# Altium footprint library POWER_BOARD.PcbLib: 31 footprints (part 1 of 2)
Each footprint in its own frame and in the unit in brackets; x right, y up, seen from the top. Pads: shape width x height; smd on the part's side, far side on the other; paste and mask are expansions set on the pad; w line width, h text height; cw(c..) or ccw(c..) is an arc to the next point about the centre after c.
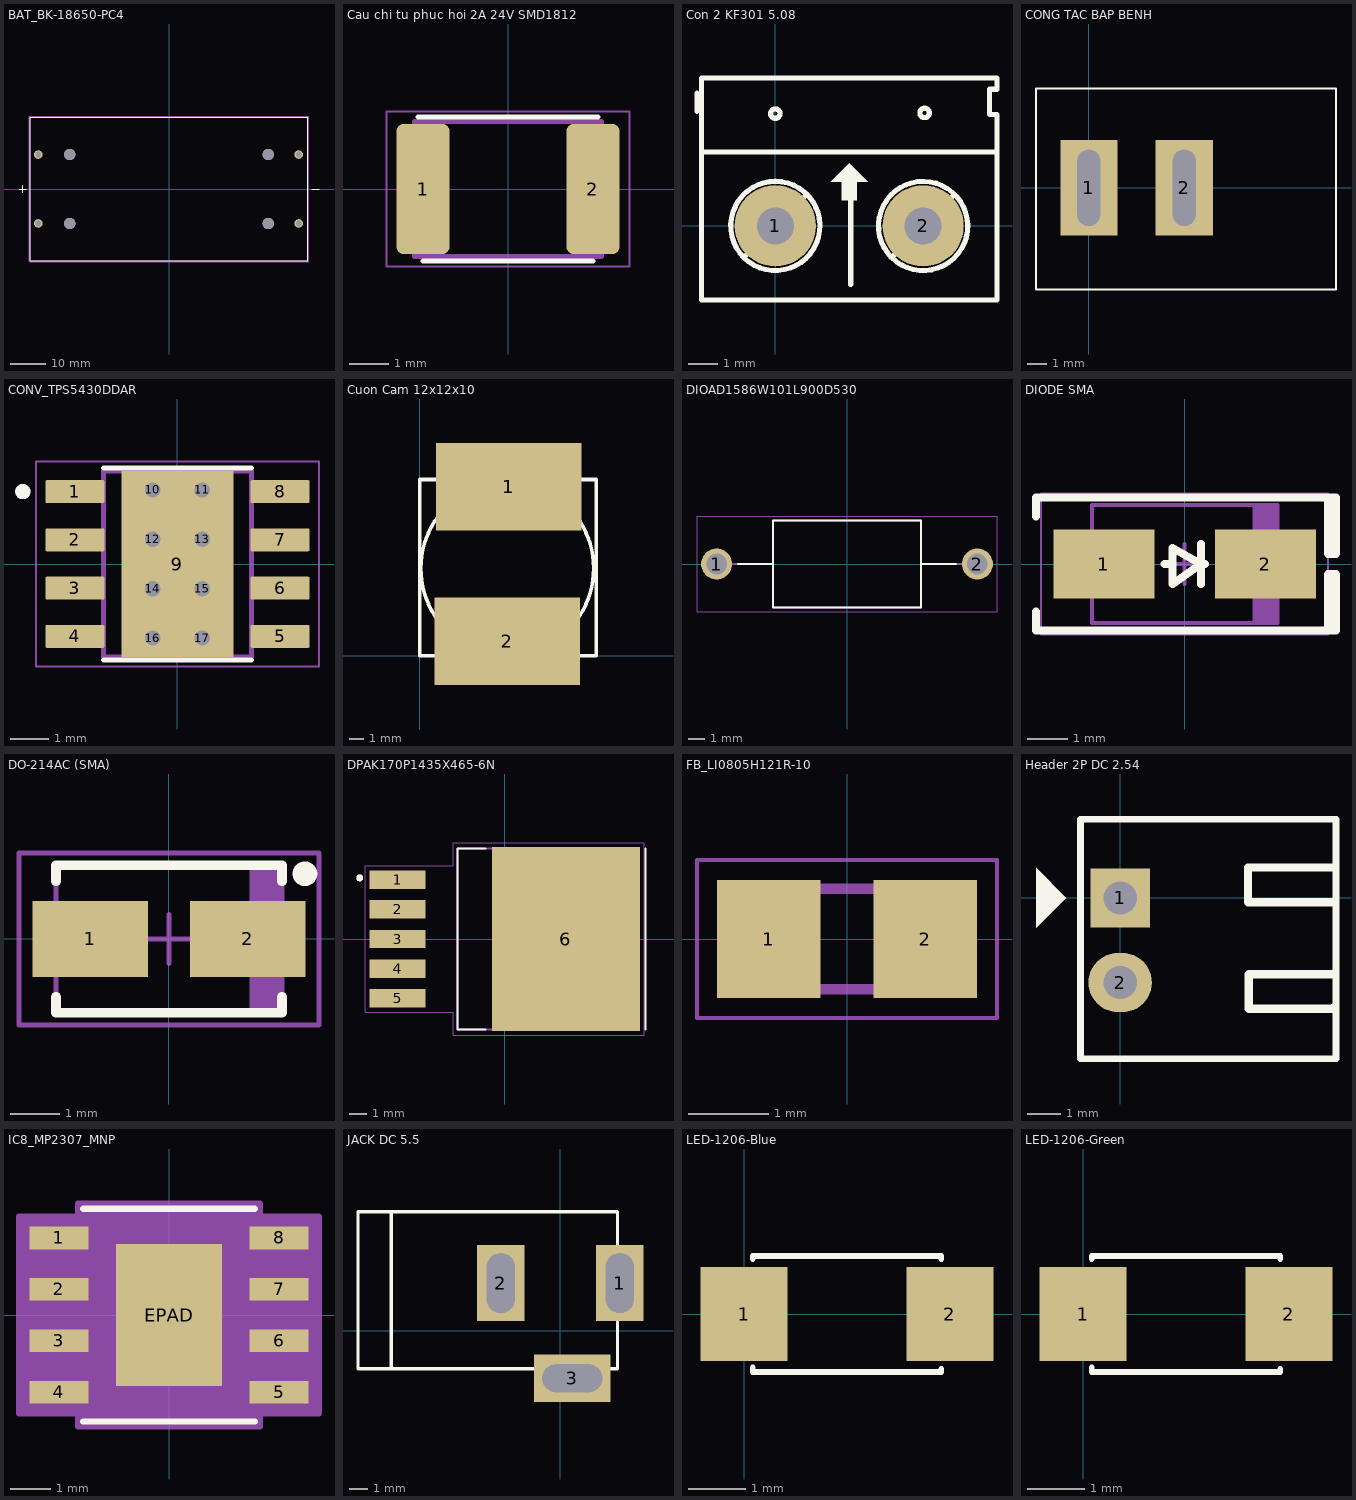
[diagram p0: the footprints below, top view; thin cyan lines are the x and y axes]

## BAT_BK-18650-PC4 [mm]
pads (8):
  round 2.4 hole 1.6: 1+(-36.6,9.65) 1-(36.3,9.65) 2+(-36.6,-9.65) 2-(36.3,-9.65)
  round 3.2 hole 3.2: ""(-27.81,-9.65) ""(-27.81,9.65) ""(27.81,-9.65) ""(27.81,9.65)
Top Overlay:
  lines w0.127: -42,0 -40,0 ; -41,-1 -41,1 ; 40,0 42,0 ; -38.85,-20.105 -38.85,20.105 38.85,20.105 38.85,-20.105 -38.85,-20.105
Mechanical 13:
  lines w0.127: -42,0 -40,0 ; -41,-1 -41,1 ; 40,0 42,0 ; -38.85,-20.105 -38.85,20.105 38.85,20.105 38.85,-20.105 -38.85,-20.105
Mechanical 15:
  lines w0.05: -39.1,-20.355 -39.1,20.355 39.1,20.355 39.1,-20.355 -39.1,-20.355
3D body "KLS5-18650-002-D.STEP": height 21, standoff -3.99, extent -38.9,-19.973 38.9,20.227

## Cau chi tu phuc hoi 2A 24V SMD1812 [mm]
pads (2):
  rrect25% 1.34x3.29 smd: 1(-2.15,0) 2(2.15,0)
Top Overlay:
  lines w0.127: -2.28,1.825 2.28,1.825 ; -2.15,-1.825 2.15,-1.825
Mechanical 13:
  lines w0.127: -2.37,-1.71 -2.37,1.71 2.37,1.71 2.37,-1.71 -2.37,-1.71
Mechanical 15:
  lines w0.05: -3.07,-1.96 -3.07,1.96 3.07,1.96 3.07,-1.96 -3.07,-1.96
3D body "step_temp.STEP": height 1.25, standoff 0, extent -2.275,-1.62 2.275,1.62

## Con 2 KF301 5.08 [mil]
pads (2):
  round 110 hole 50: 1(0,0) 2(200,0)
Top Overlay:
  circle w7: c0,152 r6.4
  circle w7: c202,153 r6.4
  region: 100,85 75,60 90,60 90,35 110,35 110,60 125,60
  lines w7: -106,155 -106,180 ; -100,100 300,100 ; -42,-42 43,43 ; 39.04,46.05 ccw(c0,0) 45.18,40.05 ; 102,-79 102,72 ; 158,-42 242.5,42.5 ; 239.76,45.44 ccw(c200,0) 245.18,40.05 ; 290,182 290,151 300,151 300,-100 -100,-100 -100,50 -100,200 300,200 300,185 290,185 ; 300,-79 300,40
3D body "Con 2 KF301.stp": height 335.25, standoff -137.19, extent -45,-97.4 255,190

## CONG TAC BAP BENH [mm]
pads (2):
  rect 3x5 hole 1.2 slot 4 at 90 deg: 1(0,0) 2(5,0)
Top Overlay:
  lines w0.1: -2.771,-5.311 -2.749,-5.334 12.954,-5.334 12.954,5.207 -2.771,5.207 -2.771,-5.311
3D body "KCD1-11.step": height 14.5, standoff -5, extent -2.67,-5.32 12.83,5.08

## CONV_TPS5430DDAR [mm]
height 1.7
pads (17):
  rrect10% 1.55x0.6 smd mask+0: 1(-2.7,1.905) 2(-2.7,0.635) 3(-2.7,-0.635) 4(-2.7,-1.905) 5(2.7,-1.905) 6(2.7,-0.635) 7(2.7,0.635) 8(2.7,1.905)
  rect 2.95x4.9 smd paste-3 mask+0: 9(0,0)
  round 0.5 hole 0.4 mask+0: 10(-0.65,1.95) 11(0.65,1.95) 12(-0.65,0.65) 13(0.65,0.65) 14(-0.65,-0.65) 15(0.65,-0.65) 16(-0.65,-1.95) 17(0.65,-1.95)
Top Overlay:
  circle w0.2: c-4.07,1.905 r0.1
  lines w0.127: -1.95,-2.525 1.95,-2.525 ; -1.95,2.525 1.95,2.525
Top Paste:
  region: 1.3,-1.55 -1.3,-1.55 -1.3,1.55 1.3,1.55
Top Solder:
  drawing of 9 lines, arcs and shapes, not listed
Mechanical 13:
  circle w0.2: c-4.07,1.905 r0.1
  lines w0.127: -1.95,-2.45 -1.95,2.45 1.95,2.45 1.95,-2.45 -1.95,-2.45
Mechanical 15:
  lines w0.05: -3.725,-2.7 -3.725,2.7 3.725,2.7 3.725,-2.7 -3.725,-2.7
3D body "step_temp.STEP": height 1.7, standoff 0, extent -3,-2.45 3,2.45

## Cuon Cam 12x12x10 [mm] "Cuon Cam 12x12x10"
pads (2):
  rect 10x6 smd: 1(6.1,11.6) 2(6,1)
Top Overlay:
  circle w0.254: c6,6 r5.941
  lines w0.254: 0,0 0,12.1 12.1,12.1 12.1,9.2 12.1,0 0,0
3D body "CUON CAM CDRH127 3A SMD.step": height 7.51, standoff 0.06, extent 0.096,-0.202 12.096,12.14

## DIOAD1586W101L900D530 [mm]
height 5.6
pads (2):
  round 1.89 hole 1.26: 1(-7.93,0) 2(7.93,0)
Top Overlay:
  lines w0.127: -6.63,0 -4.5,0 ; 6.63,0 4.5,0 ; -4.5,0 -4.5,-2.65 4.5,-2.65 4.5,0 ; -4.5,0 -4.5,2.65 4.5,2.65 4.5,0
Mechanical 13:
  lines w0.127: -7.93,0 -4.5,0 ; 7.93,0 4.5,0 ; -4.5,0 -4.5,-2.65 4.5,-2.65 4.5,0 ; -4.5,0 -4.5,2.65 4.5,2.65 4.5,0
Mechanical 15:
  lines w0.05: -9.125,-2.9 9.125,-2.9 9.125,2.9 -9.125,2.9 -9.125,-2.9

## DIODE SMA [mm] "SMA"
height 2.4
pads (2):
  rect 2.5x1.7 smd: 1(-2,0) 2(2,0)
Top Overlay:
  lines w0.2: -3.683,-1.175 -3.683,-1.651 3.75,-1.651 3.75,-0.254 3.556,-0.254 3.556,-1.651 ; -3.683,1.175 -3.683,1.651 3.75,1.651 3.75,0.254 3.556,0.254 3.556,1.651 ; -0.5,0 -0.3,0 ; 0.4,-0.5 0.4,0.5 ; 0.5,0 0.4,0 ; 0.4,0 -0.3,-0.5 -0.3,0.4 0.4,0
Mechanical 13:
  rectangle: 1.681,-1.46 2.3,1.46
  lines w0.1: -2.3,-1.46 2.3,-1.46 2.3,1.46 -2.3,1.46 -2.3,-1.46
Mechanical 15:
  lines w0.05: -3.556,-1.75 3.556,-1.75 3.556,1.75 -3.556,1.75 -3.556,-1.75
  lines w0.1: -0.5,0 0.5,0 ; 0,-0.5 0,0.5
3D body "SMA.STEP": height 2.4, standoff 0, extent -2.6,-1.375 2.6,1.375

## DO-214AC (SMA) [mm] "Molded Diode, 2-Leads, Body 4.3x2.7mm, IPC Medium Density"
height 2.5
pads (2):
  rect 2.35x1.55 smd: 1(-1.6,0) 2(1.6,0)
Top Overlay:
  circle w0.25: c2.765,1.325 r0.125
  lines w0.2: -2.3,-1.175 -2.3,-1.5 2.3,-1.5 2.3,-1.175 ; -2.3,1.175 -2.3,1.5 2.3,1.5 2.3,1.175
Mechanical 13:
  rectangle: 1.637,-1.45 2.256,1.45
  lines w0.1: -2.3,-1.45 2.3,-1.45 2.3,1.45 -2.3,1.45 -2.3,-1.45
Mechanical 15:
  lines w0.1: -0.5,0 0.5,0 ; 0,-0.5 0,0.5 ; -3.05,-1.75 3.05,-1.75 3.05,1.75 -3.05,1.75 -3.05,-1.75
3D body "User Library-DO-214AC SMA.step": height 2.4, standoff 0, extent -2.6,-1.295 2.6,1.305

## DPAK170P1435X465-6N [mm]
height 4.65
pads (6):
  rect 3.21x1.05 smd: 1(-6.13,3.4) 2(-6.13,1.7) 3(-6.13,0) 4(-6.13,-1.7) 5(-6.13,-3.4)
  rect 8.46x10.53 smd paste-6: 6(3.5,0)
Top Overlay:
  circle w0.2: c-8.3,3.5 r0.1
  lines w0.127: -1.1,-5.18 -2.705,-5.18 -2.705,5.18 -1.1,5.18 ; 8.05,-5.18 8.05,5.18
Top Paste:
  region: 0.95,-4.93 -0.31,-4.93 -0.31,-3.51 0.95,-3.51
  region: 0.95,-2.82 -0.31,-2.82 -0.31,-1.4 0.95,-1.4
  region: 3.07,3.51 1.81,3.51 1.81,4.93 3.07,4.93
  region: 0.95,3.51 -0.31,3.51 -0.31,4.93 0.95,4.93
  region: 0.95,1.4 -0.31,1.4 -0.31,2.82 0.95,2.82
  region: 3.07,1.4 1.81,1.4 1.81,2.82 3.07,2.82
  region: 3.07,-4.93 1.81,-4.93 1.81,-3.51 3.07,-3.51
  region: 3.07,-2.82 1.81,-2.82 1.81,-1.4 3.07,-1.4
  region: 7.31,-4.93 6.05,-4.93 6.05,-3.51 7.31,-3.51
  region: 7.31,-2.82 6.05,-2.82 6.05,-1.4 7.31,-1.4
  region: 7.31,3.51 6.05,3.51 6.05,4.93 7.31,4.93
  region: 7.31,1.4 6.05,1.4 6.05,2.82 7.31,2.82
  region: 5.19,-4.93 3.93,-4.93 3.93,-3.51 5.19,-3.51
  region: 5.19,-2.82 3.93,-2.82 3.93,-1.4 5.19,-1.4
  region: 5.19,3.51 3.93,3.51 3.93,4.93 5.19,4.93
  region: 5.19,1.4 3.93,1.4 3.93,2.82 5.19,2.82
  region: 0.95,-0.71 -0.31,-0.71 -0.31,0.71 0.95,0.71
  region: 3.07,-0.71 1.81,-0.71 1.81,0.71 3.07,0.71
  region: 7.31,-0.71 6.05,-0.71 6.05,0.71 7.31,0.71
  region: 5.19,-0.71 3.93,-0.71 3.93,0.71 5.19,0.71
Mechanical 13:
  circle w0.2: c-8.3,3.5 r0.1
  lines w0.127: -2.705,-5.18 6.195,-5.18 6.195,5.18 -2.705,5.18 -2.705,-5.18
Mechanical 15:
  lines w0.05: -7.99,-4.18 -2.96,-4.18 -2.96,-5.52 7.98,-5.52 7.98,5.52 -2.96,5.52 -2.96,4.18 -7.99,4.18 -7.99,-4.18
3D body "step_temp.STEP": height 4.65, standoff 0, extent -7.175,-5.08 7.175,5.08

## FB_LI0805H121R-10 [mm]
height 1.1
pads (2):
  rect 1.285x1.47 smd: 1(-0.973,0) 2(0.973,0)
Mechanical 13:
  lines w0.127: -1,-0.625 1,-0.625 1,0.625 -1,0.625 -1,-0.625
Mechanical 15:
  lines w0.05: -1.865,-0.985 1.865,-0.985 1.865,0.985 -1.865,0.985 -1.865,-0.985
3D body "step_temp.STEP": height 1.1, standoff 0, extent -1,-0.625 1,0.625

## Header 2P DC 2.54 [mil]
pads (2):
  rect 70x70 hole 39.37: 1(0,0)
  oval 75x70 hole 39.37: 2(0,-100)
Top Overlay:
  region: -99.5,35.5 -99.5,-35.5 -64.5,-0.5 -63.5,-0.5
  lines w7.87: -47,-190 255,-190 255,93 -47,93 -47,-190
  lines w10: 151,34 cw(c152,34) 152,35 ; 251,36 151,36 151,-5 253,-5 ; 253,-131 cw(c253,-130) 252,-130 cw(c251,-130) 251,-131 152,-131 152,-90 254,-90
3D body "header 2 cong.stp": height 236.7, standoff 0.48, extent -50,-189.96 250,89.96

## IC8_MP2307_MNP [mil]
pads (9):
  rect 57.5x22 smd paste+0 mask+0: 1(-107.25,75) 2(-107.25,25) 3(-107.25,-25) 4(-107.25,-75) 5(107.25,-75) 6(107.25,-25) 7(107.25,25) 8(107.25,75)
  rect 103x138 smd paste-68.5 mask+0: EPAD(0,0)
Top Overlay:
  lines w6: -83.5,-103.5 83.5,-103.5 ; -83.5,103.5 83.5,103.5
  text "." at -160,120 h393.7
Top Paste:
  region: -3.94,65.06 -47.56,65.06 -47.56,3.94 -3.94,3.94
  region: -3.94,-3.94 -47.56,-3.94 -47.56,-65.06 -3.94,-65.06
  region: 47.56,65.06 3.94,65.06 3.94,3.94 47.56,3.94
  region: 47.56,-3.94 3.94,-3.94 3.94,-65.06 47.56,-65.06
Mechanical 13:
  lines w0: -12,98.5 ccw(c0,98.5) 12,98.5
  lines w1: -122,-85 -122,-65 -78.5,-65 -78.5,-85 -122,-85 ; -122,-35 -122,-15 -78.5,-15 -78.5,-35 -122,-35 ; -122,15 -122,35 -78.5,35 -78.5,15 -122,15 ; -122,65 -122,85 -78.5,85 -78.5,65 -122,65 ; -78.5,-98.5 78.5,-98.5 78.5,98.5 -78.5,98.5 -78.5,-98.5 ; 78.5,-85 78.5,-65 122,-65 122,-85 78.5,-85 ; 78.5,-35 78.5,-15 122,-15 122,-35 78.5,-35 ; 78.5,15 78.5,35 122,35 122,15 78.5,15 ; 78.5,65 78.5,85 122,85 122,65 78.5,65
  text "*" at -76,45.5 h39.37
Mechanical 15:
  region: -88.5,-96 -146,-96 -146,96 -88.5,96 -88.5,108.5 88.5,108.5 88.5,96 146,96 146,-96 88.5,-96 88.5,-108.5 -88.5,-108.5
  lines w6: -146,-96 -146,96 -88.5,96 -88.5,108.5 88.5,108.5 88.5,96 146,96 146,-96 88.5,-96 88.5,-108.5 -88.5,-108.5 -88.5,-96 -146,-96
3D body "IC8_MP2307_MNP.step": height 67.09, standoff -2.01, extent -122.01,-98.5 122.01,98.5

## JACK DC 5.5 [mm] "Jac DC input"
height 5.08
pads (3):
  rect 2.54x4.064 hole 1.5 slot 3.2 at 90 deg: 1(3.175,2.54) 2(-3.175,2.54)
  rect 4.064x2.54 hole 1.5 slot 3.2 at 0 deg: 3(0.635,-2.54)
Top Overlay:
  lines w0.178: -9.017,-2.032 -9.017,6.35 ; -10.795,-2.032 -10.795,6.35 3.048,6.35 3.048,-2.032 -10.795,-2.032
3D body "SW3dPS-dc range - dc connector[4840.2201].STEP": height 11.02, standoff -3.48, extent -10.423,-2.67 3.404,6.836

## LED-1206-Blue [mil] "Compoment SMD 120x60mil"
height 50
pads (2):
  rect 60x65 smd: 1(0,0) 2(142,0)
Top Overlay:
  lines w4: 6,-37 6,-40 136,-40 136,-38 ; 6,38 6,40 136,40 136,38
3D body "User Library-led_1206-blue.step": height 43.31, standoff 0, extent 6.62,-31.49 133.39,31.5

## LED-1206-Green [mil]
pads (2):
  rect 60x65 smd: 1(0,0) 2(142,0)
Top Overlay:
  lines w4: 6,-37 6,-40 136,-40 136,-38 ; 6,38 6,40 136,40 136,38
3D body "User Library-led_1206-green.step": height 43.31, standoff 0, extent 6.62,-31.49 133.39,31.5